# Altium integrated library TI Data Converters Analog to Digital Converter.IntLib: 2197 symbols (part 74 of 168)
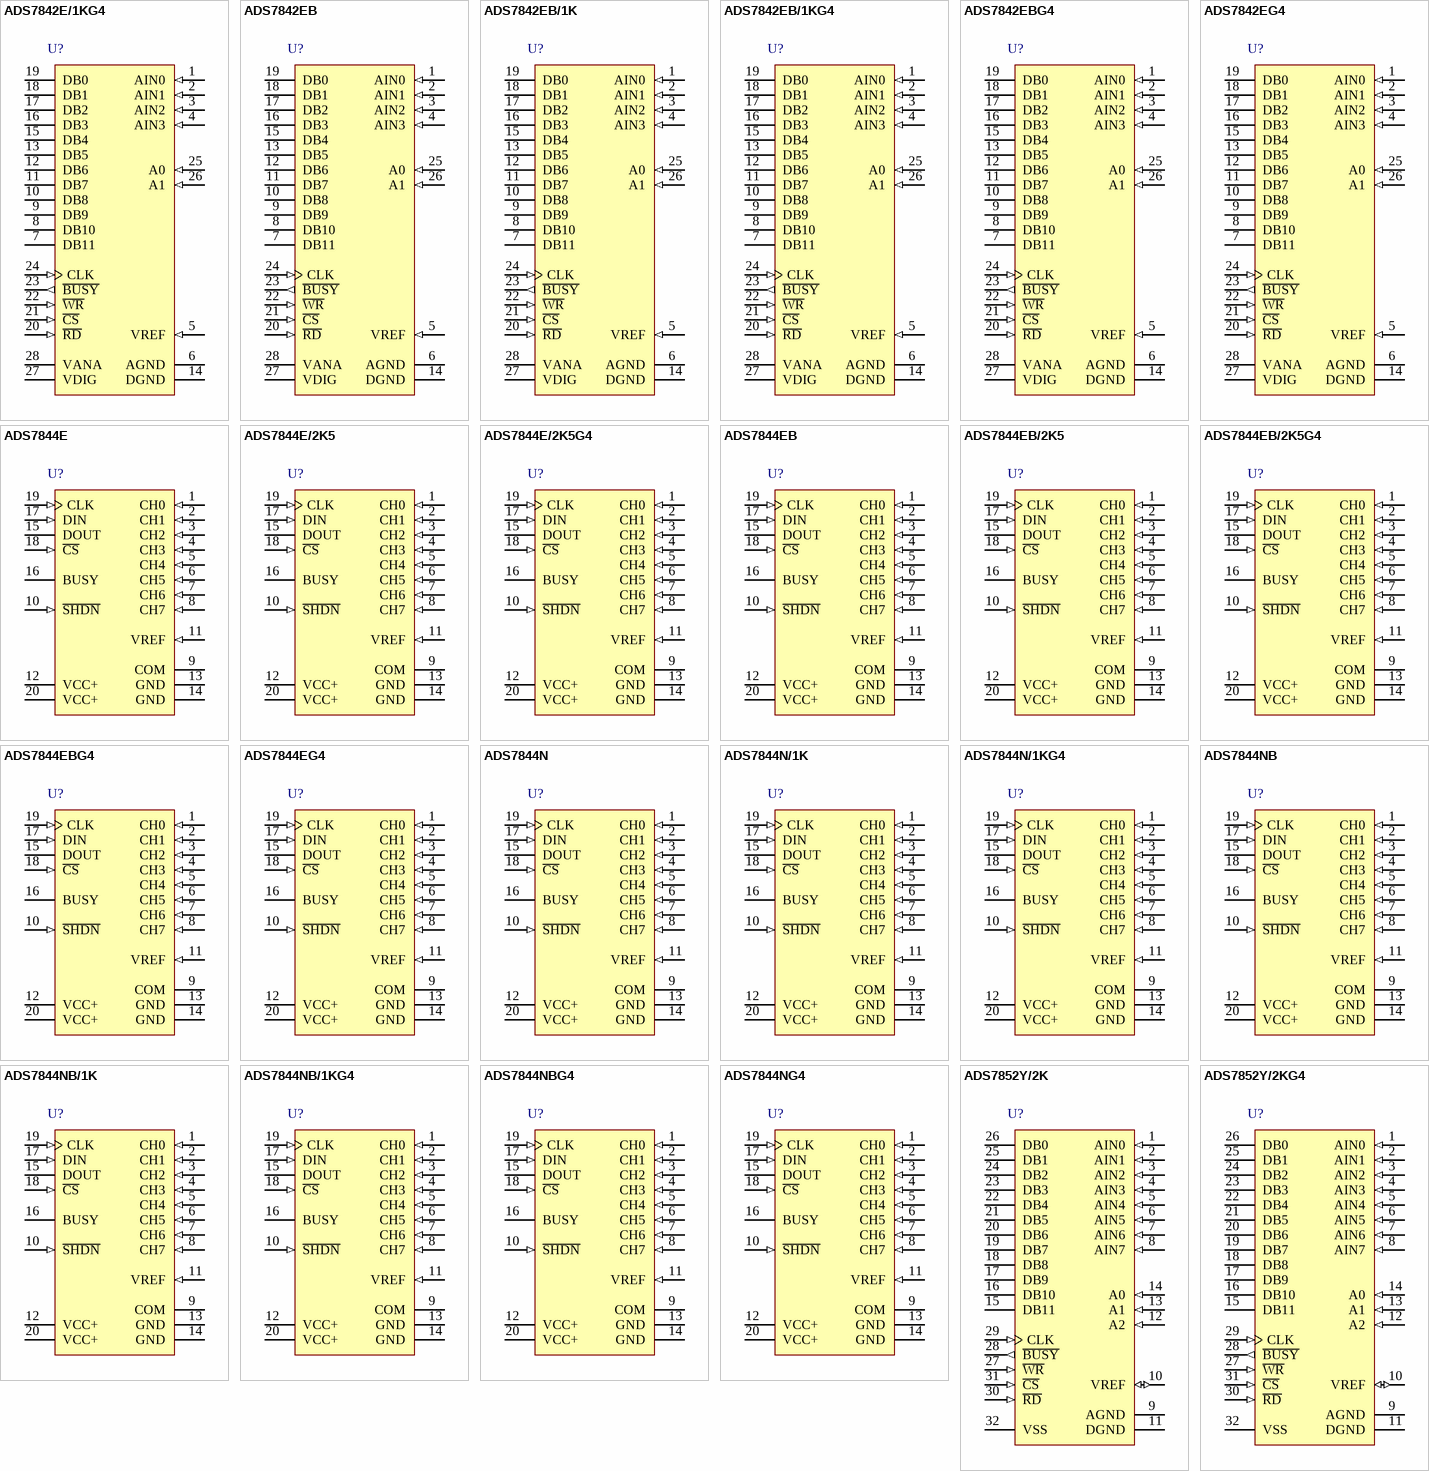
[diagram p199: symbols ADS7842E/1KG4 to ADS7852Y/2KG4]

## ADS7844NBG4
designator U?
12-Bit, 8-Channel Serial Output Sampling ADC, -40 to 85 degC, 20-pin SOP (DB20), Green (RoHS & no Sb/Br); Manufacturer: Texas Instruments; PartNumber: ADS7844NBG4; # Input Channels: 8; Analog Voltage AV/DD(Max)(V): 5.25; Analog Voltage AV/DD(Min)(V): 2.7; Architecture: SAR; INL(Max)(+/-LSB): 1; Interface: Serial SPI; Resolution(Bits): 12; Sample Rate (max)(SPS): 200K; SFDR(dB): 78; SINAD(dB): 72; SubFamily: Precision ADC (<=10MSPS); DatasheetVersion: SBAS100A; PackageVersion: 4040065/E, 12/2001; PackageReference: DB20; PackageDescription: 20-Pin Plastic Small Outline, Body 5.3 x 7.2 mm, Pitch 0.65 mm; Supplier 1: Digi-Key; Supplier Part Number 1: TLV2544CPWG4-ND; Supplier 2: Mouser; Supplier Part Number 2: 595-TLV2544CPWG4; Digital Supply(Max)(V): 5.25; Digital Supply(Min)(V): 2.7; Eco-Plan: Green (RoHS & no Sb/Br); SNR(dB): 72; Mounting Technology: Surface Mount; Code_JEDEC: MO-150; ComponentLink1Description: Manufacturer URL; ComponentLink1URL: http://www.ti.com/; ComponentLink2Description: Datasheet; ComponentLink2URL: http://www.ti.com/general/docs/lit/getliterature.tsp?genericPartNumber=ADS7844&fileType=pdf; ComponentLink3Description: Package Specification; ComponentLink3URL: http://www.ti.com/lit/ml/msso002e/msso002e.pdf
footprint TI-DB20_N (SOP, 20-Leads, Body 7.2x5.3mm, Pitch 0.65mm, IPC Medium Density)
footprint TI-DB20_L (SOP, 20-Leads, Body 7.2x5.3mm, Pitch 0.65mm, IPC High Density)
footprint TI-DB20_M (SOP, 20-Leads, Body 7.2x5.3mm, Pitch 0.65mm, IPC Low Density)
pins: 1 CH0 (in) "Analog Input Channel 0.", 2 CH1 (in) "Analog Input Channel 1.", 3 CH2 (in) "Analog Input Channel 2.", 4 CH3 (in) "Analog Input Channel 3.", 5 CH4 (in) "Analog Input Channel 4.", 6 CH5 (in) "Analog Input Channel 5.", 7 CH6 (in) "Analog Input Channel 6.", 8 CH7 (in) "Analog Input Channel 7.", 9 COM (power) "Ground reference for analog inputs. Sets zero code voltage in single ended mode. Connect this pin to ground or ground reference point.", 10 ~{SHDN} (in) "Shutdown. When LOW, the device enters a very low power shutdown mode.", 11 VREF (in) "Voltage Reference Input. See Specification Table for ranges.", 12 VCC+ (power) "Power Supply, 2.7V to 5V.", 13 GND (power) "Ground", 14 GND (power) "Ground", 15 DOUT (hiz) "Serial Data Output. Data is shifted on the falling edge of DCLK. This output is high impedance when C\S\ is high.", 16 BUSY (hiz) "Busy Output. Busy goes low when the DIN control bits are being read and also when the device is converting. The Output is high impedance when C\S\ is High.", 17 DIN (in) "Serial Data Input. If C\S\ is LOW, data is latched on rising edge of DCLK.", 18 ~{CS} (in) "Chip Select Input. Active LOW. Data will not be clocked into DIN unless C\S\ is low. When C\S\ is high DOUT is high impedance", 19 CLK (in) "External Clock Input. The clock speed determines the conversion rate by the equation fCLK = 16 x fSAMPLE.", 20 VCC+ (power) "Power Supply"

## ADS7844NG4
designator U?
12-Bit, 8-Channel Serial Output Sampling ADC, -40 to 85 degC, 20-pin SOP (DB20), Green (RoHS & no Sb/Br); Manufacturer: Texas Instruments; PartNumber: ADS7844NG4; # Input Channels: 8; Analog Voltage AV/DD(Max)(V): 5.25; Analog Voltage AV/DD(Min)(V): 2.7; Architecture: SAR; INL(Max)(+/-LSB): 2; Interface: Serial SPI; Resolution(Bits): 12; Sample Rate (max)(SPS): 200K; SFDR(dB): 76; SINAD(dB): 71; SNR(dB): 72; SubFamily: Precision ADC (<=10MSPS); DatasheetVersion: SBAS100A; PackageVersion: 4040065/E, 12/2001; PackageReference: DB20; PackageDescription: 20-Pin Plastic Small Outline, Body 5.3 x 7.2 mm, Pitch 0.65 mm; Supplier 1: Digi-Key; Supplier Part Number 1: TLV2544CPWR-ND; Supplier 2: Mouser; Supplier Part Number 2: 595-TLV2544CPWR; Digital Supply(Max)(V): 5.25; Digital Supply(Min)(V): 2.7; Eco-Plan: Green (RoHS & no Sb/Br); Mounting Technology: Surface Mount; Code_JEDEC: MO-150; ComponentLink1Description: Manufacturer URL; ComponentLink1URL: http://www.ti.com/; ComponentLink2Description: Datasheet; ComponentLink2URL: http://www.ti.com/general/docs/lit/getliterature.tsp?genericPartNumber=ADS7844&fileType=pdf; ComponentLink3Description: Package Specification; ComponentLink3URL: http://www.ti.com/lit/ml/msso002e/msso002e.pdf
footprint TI-DB20_N (SOP, 20-Leads, Body 7.2x5.3mm, Pitch 0.65mm, IPC Medium Density)
footprint TI-DB20_L (SOP, 20-Leads, Body 7.2x5.3mm, Pitch 0.65mm, IPC High Density)
footprint TI-DB20_M (SOP, 20-Leads, Body 7.2x5.3mm, Pitch 0.65mm, IPC Low Density)
pins: 1 CH0 (in) "Analog Input Channel 0.", 2 CH1 (in) "Analog Input Channel 1.", 3 CH2 (in) "Analog Input Channel 2.", 4 CH3 (in) "Analog Input Channel 3.", 5 CH4 (in) "Analog Input Channel 4.", 6 CH5 (in) "Analog Input Channel 5.", 7 CH6 (in) "Analog Input Channel 6.", 8 CH7 (in) "Analog Input Channel 7.", 9 COM (power) "Ground reference for analog inputs. Sets zero code voltage in single ended mode. Connect this pin to ground or ground reference point.", 10 ~{SHDN} (in) "Shutdown. When LOW, the device enters a very low power shutdown mode.", 11 VREF (in) "Voltage Reference Input. See Specification Table for ranges.", 12 VCC+ (power) "Power Supply, 2.7V to 5V.", 13 GND (power) "Ground", 14 GND (power) "Ground", 15 DOUT (hiz) "Serial Data Output. Data is shifted on the falling edge of DCLK. This output is high impedance when C\S\ is high.", 16 BUSY (hiz) "Busy Output. Busy goes low when the DIN control bits are being read and also when the device is converting. The Output is high impedance when C\S\ is High.", 17 DIN (in) "Serial Data Input. If C\S\ is LOW, data is latched on rising edge of DCLK.", 18 ~{CS} (in) "Chip Select Input. Active LOW. Data will not be clocked into DIN unless C\S\ is low. When C\S\ is high DOUT is high impedance", 19 CLK (in) "External Clock Input. The clock speed determines the conversion rate by the equation fCLK = 16 x fSAMPLE.", 20 VCC+ (power) "Power Supply"

## ADS7852Y/2K
designator U?
12-Bit, 8-Channel, Parallel Output ADC, -40 to 85 degC, 32-pin QFP (PBS32), Green (RoHS & no Sb/Br); Manufacturer: Texas Instruments; PartNumber: ADS7852Y/2K; # Input Channels: 8; Analog Voltage AV/DD(Max)(V): 5.25; Analog Voltage AV/DD(Min)(V): 4.75; Architecture: SAR; INL(Max)(+/-LSB): 2; Interface: Parallel CMOS; Resolution(Bits): 12; Sample Rate (max)(SPS): 500K; SFDR(dB): 74; SINAD(dB): 70; SNR(dB): 72; SubFamily: Precision ADC (<=10MSPS); DatasheetVersion: SBAS111C; PackageVersion: 4087735/B, 07/2005; PackageReference: PBS32; PackageDescription: 32-Pin Plastic Flat Pack, Body 5 X 5 mm, Pitch 0.5 mm; Supplier 1: Digi-Key; Supplier Part Number 1: TLV2544CPWRG4-ND; Supplier 2: Mouser; Supplier Part Number 2: 595-TLV2544CPWRG4; Digital Supply(Max)(V): 5.25; Digital Supply(Min)(V): 4.75; Eco-Plan: Green (RoHS & no Sb/Br); Mounting Technology: Surface Mount; Code_JEDEC: MS-026; ComponentLink1Description: Manufacturer URL; ComponentLink1URL: http://www.ti.com/; ComponentLink2Description: Datasheet; ComponentLink2URL: http://www.ti.com/general/docs/lit/getliterature.tsp?genericPartNumber=ADS7852&fileType=pdf; ComponentLink3Description: Package Specification; ComponentLink3URL: http://www.ti.com/lit/ml/mpqf027a/mpqf027a.pdf
footprint TI-PBS32_N (QFP, 32-Leads, Body 5x5mm, Pitch 0.5mm, IPC Medium Density)
footprint TI-PBS32_L (QFP, 32-Leads, Body 5x5mm, Pitch 0.5mm, IPC High Density)
footprint TI-PBS32_M (QFP, 32-Leads, Body 5x5mm, Pitch 0.5mm, IPC Low Density)
pins: 1 AIN0 (in) "Analog Input Channel 0", 2 AIN1 (in) "Analog Input Channel 1", 3 AIN2 (in) "Analog Input Channel 2", 4 AIN3 (in) "Analog Input Channel 3", 5 AIN4 (in) "Analog Input Channel 4", 6 AIN5 (in) "Analog Input Channel 5", 7 AIN6 (in) "Analog Input Channel 6", 8 AIN7 (in) "Analog Input Channel 7", 9 AGND (power) "Analog Ground, GND = 0V", 10 VREF (io) "Voltage Reference Input and Output. See Electrical Characteristics table for ranges.Decouple to ground with a 0.1uF ceramic capacitor and a 2.2uF tantalum capacitor.", 11 DGND (power) "Digital Ground, GND = 0V", 12 A2 (in) "Channel Address. See Channel Selection Table for details.", 13 A1 (in) "Channel Address. See Channel Selection Table for details.", 14 A0 (in) "Channel Address. See Channel Selection Table for details.", 15 DB11 (hiz) "Data Bit 11 (MSB)", 16 DB10 (hiz) "Data Bit 10", 17 DB9 (hiz) "Data Bit 9", 18 DB8 (hiz) "Data Bit 8", 19 DB7 (hiz) "Data Bit 7", 20 DB6 (hiz) "Data Bit 6", 21 DB5 (hiz) "Data Bit 5", 22 DB4 (hiz) "Data Bit 4", 23 DB3 (hiz) "Data Bit 3", 24 DB2 (hiz) "Data Bit 2", 25 DB1 (hiz) "Data Bit 1", 26 DB0 (hiz) "Data Bit 0 (LSB)", 27 ~{WR} (in) "Write Input. Active LOW. Use to start a new conversion and to select an analog channel via address inputs A0, A1 and A2 in combination with C\S\.", 28 ~{BUSY} (out) "B\U\S\Y\ output goes LOW and stays LOW during a conversion. B\U\S\Y\ rises when a conversion is complete.", 29 CLK (in) "External Clock Input. The clock speed determines the conversion rate by the equation: fCLK = 16 X fSAMPLE.", 30 ~{RD} (in) "Read Input. Active LOW. Use to read the data outputs in combination with C\S\. Also use (in conjunction with A0 or A1) to place device in power-down mode.", 31 ~{CS} (in) "Chip Select Input. Active LOW. The combination of C\S\ taken LOW and W\R\ taken LOW initiates a new conversion and places the outputs in tri-state mode.", 32 VSS (power) "Voltage Supply Input. Nominally +5V. Decouple to ground with a 0.1uF ceramic capacitor and a 10uF tantalum capacitor."

## ADS7852Y/2KG4
designator U?
12-Bit, 8-Channel, Parallel Output ADC, -40 to 85 degC, 32-pin QFP (PBS32), Green (RoHS & no Sb/Br); Manufacturer: Texas Instruments; PartNumber: ADS7852Y/2KG4; # Input Channels: 8; Analog Voltage AV/DD(Max)(V): 5.25; Analog Voltage AV/DD(Min)(V): 4.75; Architecture: SAR; INL(Max)(+/-LSB): 2; Interface: Parallel CMOS; Resolution(Bits): 12; Sample Rate (max)(SPS): 500K; SFDR(dB): 74; SINAD(dB): 70; SNR(dB): 72; SubFamily: Precision ADC (<=10MSPS); DatasheetVersion: SBAS111C; PackageVersion: 4087735/B, 07/2005; PackageReference: PBS32; PackageDescription: 32-Pin Plastic Flat Pack, Body 5 X 5 mm, Pitch 0.5 mm; Supplier 1: Digi-Key; Supplier Part Number 1: 296-2981-5-ND; Supplier 2: Newark; Supplier Part Number 2: 76C8356; Supplier 3: Mouser; Supplier Part Number 3: 595-TLV2544ID; Digital Supply(Max)(V): 5.25; Digital Supply(Min)(V): 4.75; Eco-Plan: Green (RoHS & no Sb/Br); Mounting Technology: Surface Mount; Code_JEDEC: MS-026; ComponentLink1Description: Manufacturer URL; ComponentLink1URL: http://www.ti.com/; ComponentLink2Description: Datasheet; ComponentLink2URL: http://www.ti.com/general/docs/lit/getliterature.tsp?genericPartNumber=ADS7852&fileType=pdf; ComponentLink3Description: Package Specification; ComponentLink3URL: http://www.ti.com/lit/ml/mpqf027a/mpqf027a.pdf
footprint TI-PBS32_N (QFP, 32-Leads, Body 5x5mm, Pitch 0.5mm, IPC Medium Density)
footprint TI-PBS32_L (QFP, 32-Leads, Body 5x5mm, Pitch 0.5mm, IPC High Density)
footprint TI-PBS32_M (QFP, 32-Leads, Body 5x5mm, Pitch 0.5mm, IPC Low Density)
pins: 1 AIN0 (in) "Analog Input Channel 0", 2 AIN1 (in) "Analog Input Channel 1", 3 AIN2 (in) "Analog Input Channel 2", 4 AIN3 (in) "Analog Input Channel 3", 5 AIN4 (in) "Analog Input Channel 4", 6 AIN5 (in) "Analog Input Channel 5", 7 AIN6 (in) "Analog Input Channel 6", 8 AIN7 (in) "Analog Input Channel 7", 9 AGND (power) "Analog Ground, GND = 0V", 10 VREF (io) "Voltage Reference Input and Output. See Electrical Characteristics table for ranges.Decouple to ground with a 0.1uF ceramic capacitor and a 2.2uF tantalum capacitor.", 11 DGND (power) "Digital Ground, GND = 0V", 12 A2 (in) "Channel Address. See Channel Selection Table for details.", 13 A1 (in) "Channel Address. See Channel Selection Table for details.", 14 A0 (in) "Channel Address. See Channel Selection Table for details.", 15 DB11 (hiz) "Data Bit 11 (MSB)", 16 DB10 (hiz) "Data Bit 10", 17 DB9 (hiz) "Data Bit 9", 18 DB8 (hiz) "Data Bit 8", 19 DB7 (hiz) "Data Bit 7", 20 DB6 (hiz) "Data Bit 6", 21 DB5 (hiz) "Data Bit 5", 22 DB4 (hiz) "Data Bit 4", 23 DB3 (hiz) "Data Bit 3", 24 DB2 (hiz) "Data Bit 2", 25 DB1 (hiz) "Data Bit 1", 26 DB0 (hiz) "Data Bit 0 (LSB)", 27 ~{WR} (in) "Write Input. Active LOW. Use to start a new conversion and to select an analog channel via address inputs A0, A1 and A2 in combination with C\S\.", 28 ~{BUSY} (out) "B\U\S\Y\ output goes LOW and stays LOW during a conversion. B\U\S\Y\ rises when a conversion is complete.", 29 CLK (in) "External Clock Input. The clock speed determines the conversion rate by the equation: fCLK = 16 X fSAMPLE.", 30 ~{RD} (in) "Read Input. Active LOW. Use to read the data outputs in combination with C\S\. Also use (in conjunction with A0 or A1) to place device in power-down mode.", 31 ~{CS} (in) "Chip Select Input. Active LOW. The combination of C\S\ taken LOW and W\R\ taken LOW initiates a new conversion and places the outputs in tri-state mode.", 32 VSS (power) "Voltage Supply Input. Nominally +5V. Decouple to ground with a 0.1uF ceramic capacitor and a 10uF tantalum capacitor."

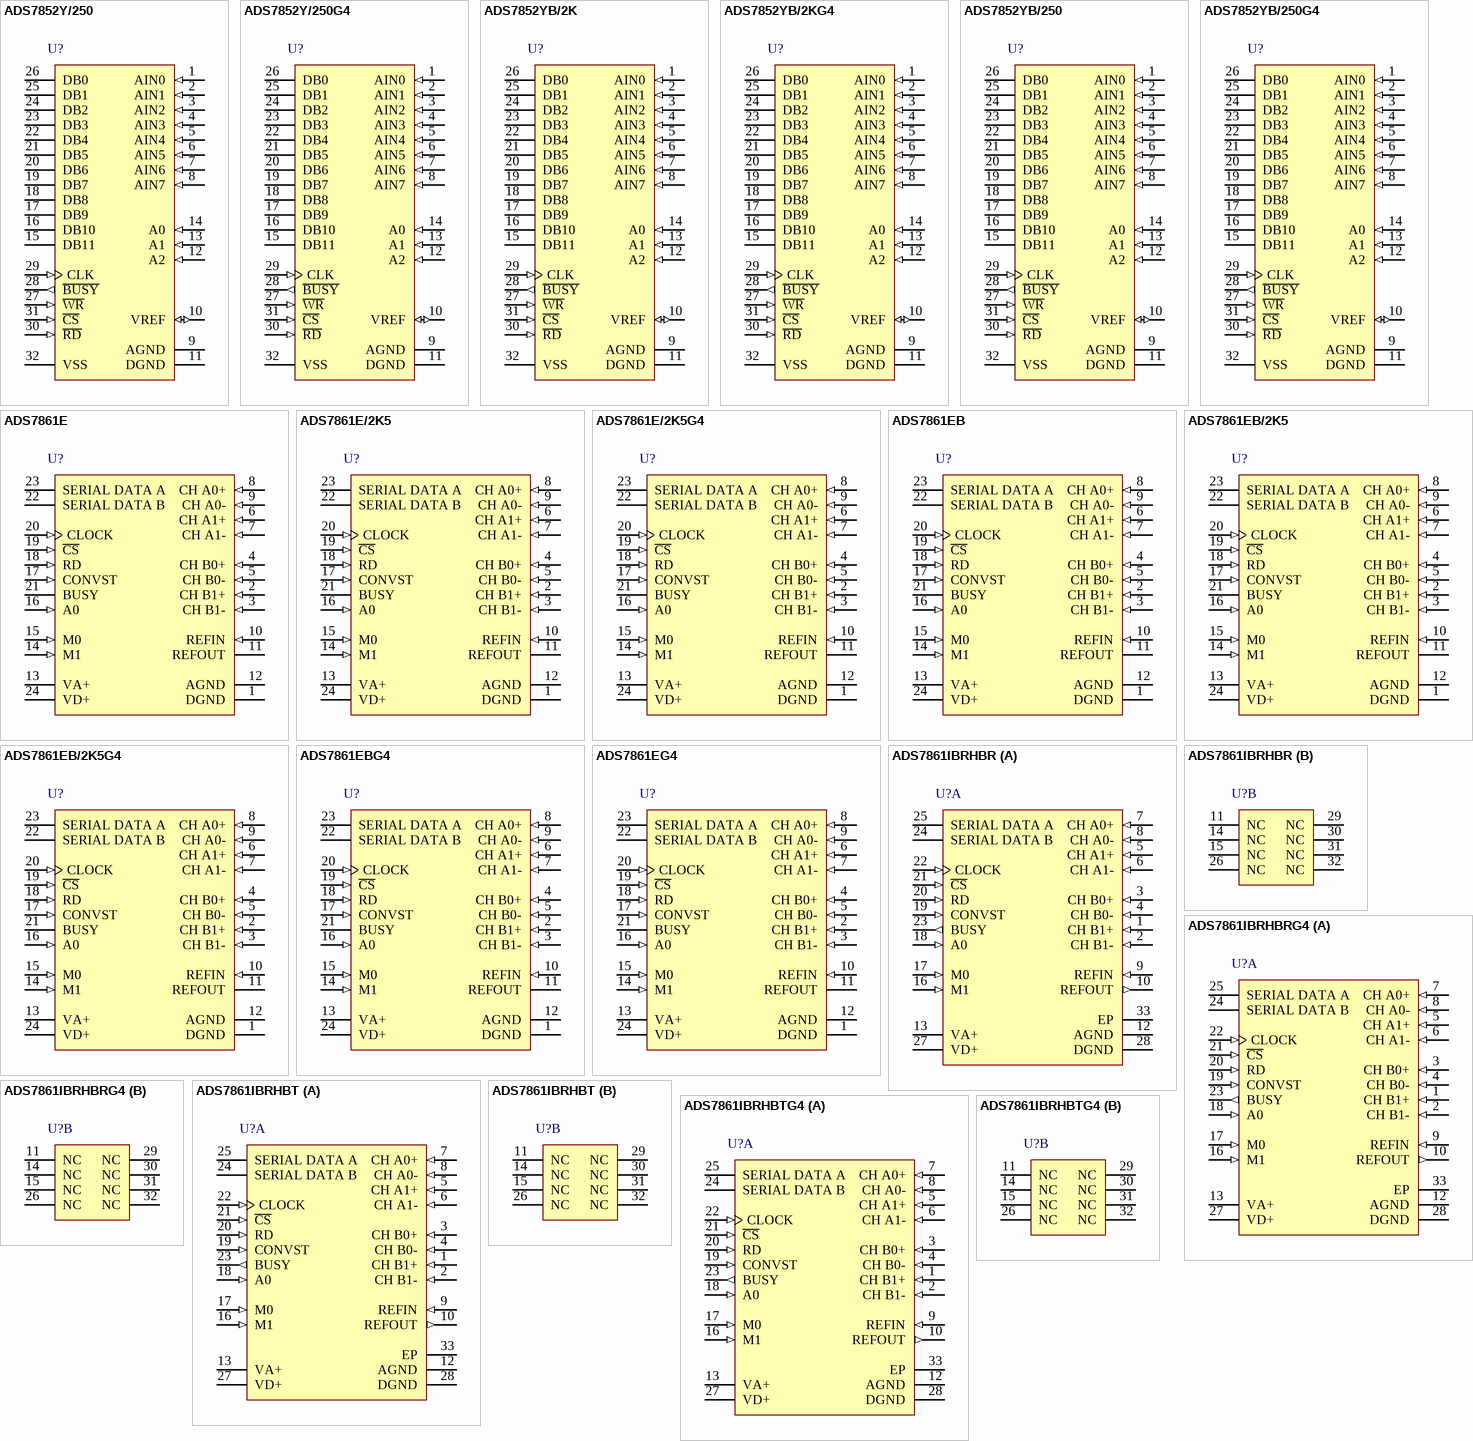
[diagram p66: symbols ADS7852Y/250 to ADS7861IBRHBTG4]

## ADS7852Y/250
designator U?
12-Bit, 8-Channel, Parallel Output ADC, -40 to 85 degC, 32-pin QFP (PBS32), Green (RoHS & no Sb/Br); Manufacturer: Texas Instruments; PartNumber: ADS7852Y/250; # Input Channels: 8; Analog Voltage AV/DD(Max)(V): 5.25; Analog Voltage AV/DD(Min)(V): 4.75; Architecture: SAR; INL(Max)(+/-LSB): 2; Interface: Parallel CMOS; Resolution(Bits): 12; Sample Rate (max)(SPS): 500K; SFDR(dB): 74; SINAD(dB): 70; SNR(dB): 72; SubFamily: Precision ADC (<=10MSPS); DatasheetVersion: SBAS111C; PackageVersion: 4087735/B, 07/2005; PackageReference: PBS32; PackageDescription: 32-Pin Plastic Flat Pack, Body 5 X 5 mm, Pitch 0.5 mm; Supplier 1: Digi-Key; Supplier Part Number 1: TLV2544IDG4-ND; Supplier 2: Mouser; Supplier Part Number 2: 595-TLV2544IDG4; Digital Supply(Max)(V): 5.25; Digital Supply(Min)(V): 4.75; Eco-Plan: Green (RoHS & no Sb/Br); Mounting Technology: Surface Mount; Code_JEDEC: MS-026; ComponentLink1Description: Manufacturer URL; ComponentLink1URL: http://www.ti.com/; ComponentLink2Description: Datasheet; ComponentLink2URL: http://www.ti.com/general/docs/lit/getliterature.tsp?genericPartNumber=ADS7852&fileType=pdf; ComponentLink3Description: Package Specification; ComponentLink3URL: http://www.ti.com/lit/ml/mpqf027a/mpqf027a.pdf
footprint TI-PBS32_N (QFP, 32-Leads, Body 5x5mm, Pitch 0.5mm, IPC Medium Density)
footprint TI-PBS32_L (QFP, 32-Leads, Body 5x5mm, Pitch 0.5mm, IPC High Density)
footprint TI-PBS32_M (QFP, 32-Leads, Body 5x5mm, Pitch 0.5mm, IPC Low Density)
pins: 1 AIN0 (in) "Analog Input Channel 0", 2 AIN1 (in) "Analog Input Channel 1", 3 AIN2 (in) "Analog Input Channel 2", 4 AIN3 (in) "Analog Input Channel 3", 5 AIN4 (in) "Analog Input Channel 4", 6 AIN5 (in) "Analog Input Channel 5", 7 AIN6 (in) "Analog Input Channel 6", 8 AIN7 (in) "Analog Input Channel 7", 9 AGND (power) "Analog Ground, GND = 0V", 10 VREF (io) "Voltage Reference Input and Output. See Electrical Characteristics table for ranges.Decouple to ground with a 0.1uF ceramic capacitor and a 2.2uF tantalum capacitor.", 11 DGND (power) "Digital Ground, GND = 0V", 12 A2 (in) "Channel Address. See Channel Selection Table for details.", 13 A1 (in) "Channel Address. See Channel Selection Table for details.", 14 A0 (in) "Channel Address. See Channel Selection Table for details.", 15 DB11 (hiz) "Data Bit 11 (MSB)", 16 DB10 (hiz) "Data Bit 10", 17 DB9 (hiz) "Data Bit 9", 18 DB8 (hiz) "Data Bit 8", 19 DB7 (hiz) "Data Bit 7", 20 DB6 (hiz) "Data Bit 6", 21 DB5 (hiz) "Data Bit 5", 22 DB4 (hiz) "Data Bit 4", 23 DB3 (hiz) "Data Bit 3", 24 DB2 (hiz) "Data Bit 2", 25 DB1 (hiz) "Data Bit 1", 26 DB0 (hiz) "Data Bit 0 (LSB)", 27 ~{WR} (in) "Write Input. Active LOW. Use to start a new conversion and to select an analog channel via address inputs A0, A1 and A2 in combination with C\S\.", 28 ~{BUSY} (out) "B\U\S\Y\ output goes LOW and stays LOW during a conversion. B\U\S\Y\ rises when a conversion is complete.", 29 CLK (in) "External Clock Input. The clock speed determines the conversion rate by the equation: fCLK = 16 X fSAMPLE.", 30 ~{RD} (in) "Read Input. Active LOW. Use to read the data outputs in combination with C\S\. Also use (in conjunction with A0 or A1) to place device in power-down mode.", 31 ~{CS} (in) "Chip Select Input. Active LOW. The combination of C\S\ taken LOW and W\R\ taken LOW initiates a new conversion and places the outputs in tri-state mode.", 32 VSS (power) "Voltage Supply Input. Nominally +5V. Decouple to ground with a 0.1uF ceramic capacitor and a 10uF tantalum capacitor."

## ADS7852Y/250G4
designator U?
12-Bit, 8-Channel, Parallel Output ADC, -40 to 85 degC, 32-pin QFP (PBS32), Green (RoHS & no Sb/Br); Manufacturer: Texas Instruments; PartNumber: ADS7852Y/250G4; # Input Channels: 8; Analog Voltage AV/DD(Max)(V): 5.25; Analog Voltage AV/DD(Min)(V): 4.75; Architecture: SAR; INL(Max)(+/-LSB): 2; Interface: Parallel CMOS; Resolution(Bits): 12; Sample Rate (max)(SPS): 500K; SFDR(dB): 74; SINAD(dB): 70; SNR(dB): 72; SubFamily: Precision ADC (<=10MSPS); DatasheetVersion: SBAS111C; PackageVersion: 4087735/B, 07/2005; PackageReference: PBS32; PackageDescription: 32-Pin Plastic Flat Pack, Body 5 X 5 mm, Pitch 0.5 mm; Supplier 1: Digi-Key; Supplier Part Number 1: TLV2544IDR-ND; Supplier 2: Newark; Supplier Part Number 2: 76C8357; Supplier 3: Mouser; Supplier Part Number 3: 595-TLV2544IDR; Digital Supply(Max)(V): 5.25; Digital Supply(Min)(V): 4.75; Eco-Plan: Green (RoHS & no Sb/Br); Mounting Technology: Surface Mount; Code_JEDEC: MS-026; ComponentLink1Description: Manufacturer URL; ComponentLink1URL: http://www.ti.com/; ComponentLink2Description: Datasheet; ComponentLink2URL: http://www.ti.com/general/docs/lit/getliterature.tsp?genericPartNumber=ADS7852&fileType=pdf; ComponentLink3Description: Package Specification; ComponentLink3URL: http://www.ti.com/lit/ml/mpqf027a/mpqf027a.pdf
footprint TI-PBS32_N (QFP, 32-Leads, Body 5x5mm, Pitch 0.5mm, IPC Medium Density)
footprint TI-PBS32_L (QFP, 32-Leads, Body 5x5mm, Pitch 0.5mm, IPC High Density)
footprint TI-PBS32_M (QFP, 32-Leads, Body 5x5mm, Pitch 0.5mm, IPC Low Density)
pins: 1 AIN0 (in) "Analog Input Channel 0", 2 AIN1 (in) "Analog Input Channel 1", 3 AIN2 (in) "Analog Input Channel 2", 4 AIN3 (in) "Analog Input Channel 3", 5 AIN4 (in) "Analog Input Channel 4", 6 AIN5 (in) "Analog Input Channel 5", 7 AIN6 (in) "Analog Input Channel 6", 8 AIN7 (in) "Analog Input Channel 7", 9 AGND (power) "Analog Ground, GND = 0V", 10 VREF (io) "Voltage Reference Input and Output. See Electrical Characteristics table for ranges.Decouple to ground with a 0.1uF ceramic capacitor and a 2.2uF tantalum capacitor.", 11 DGND (power) "Digital Ground, GND = 0V", 12 A2 (in) "Channel Address. See Channel Selection Table for details.", 13 A1 (in) "Channel Address. See Channel Selection Table for details.", 14 A0 (in) "Channel Address. See Channel Selection Table for details.", 15 DB11 (hiz) "Data Bit 11 (MSB)", 16 DB10 (hiz) "Data Bit 10", 17 DB9 (hiz) "Data Bit 9", 18 DB8 (hiz) "Data Bit 8", 19 DB7 (hiz) "Data Bit 7", 20 DB6 (hiz) "Data Bit 6", 21 DB5 (hiz) "Data Bit 5", 22 DB4 (hiz) "Data Bit 4", 23 DB3 (hiz) "Data Bit 3", 24 DB2 (hiz) "Data Bit 2", 25 DB1 (hiz) "Data Bit 1", 26 DB0 (hiz) "Data Bit 0 (LSB)", 27 ~{WR} (in) "Write Input. Active LOW. Use to start a new conversion and to select an analog channel via address inputs A0, A1 and A2 in combination with C\S\.", 28 ~{BUSY} (out) "B\U\S\Y\ output goes LOW and stays LOW during a conversion. B\U\S\Y\ rises when a conversion is complete.", 29 CLK (in) "External Clock Input. The clock speed determines the conversion rate by the equation: fCLK = 16 X fSAMPLE.", 30 ~{RD} (in) "Read Input. Active LOW. Use to read the data outputs in combination with C\S\. Also use (in conjunction with A0 or A1) to place device in power-down mode.", 31 ~{CS} (in) "Chip Select Input. Active LOW. The combination of C\S\ taken LOW and W\R\ taken LOW initiates a new conversion and places the outputs in tri-state mode.", 32 VSS (power) "Voltage Supply Input. Nominally +5V. Decouple to ground with a 0.1uF ceramic capacitor and a 10uF tantalum capacitor."

## ADS7852YB/2K
designator U?
12-Bit, 8-Channel, Parallel Output ADC, -40 to 85 degC, 32-pin QFP (PBS32), Green (RoHS & no Sb/Br); Manufacturer: Texas Instruments; PartNumber: ADS7852YB/2K; # Input Channels: 8; Analog Voltage AV/DD(Max)(V): 5.25; Analog Voltage AV/DD(Min)(V): 4.75; Architecture: SAR; INL(Max)(+/-LSB): 1; Interface: Parallel CMOS; Resolution(Bits): 12; Sample Rate (max)(SPS): 500K; SFDR(dB): 77; SINAD(dB): 72; SubFamily: Precision ADC (<=10MSPS); DatasheetVersion: SBAS111C; PackageVersion: 4087735/B, 07/2005; PackageReference: PBS32; PackageDescription: 32-Pin Plastic Flat Pack, Body 5 X 5 mm, Pitch 0.5 mm; Supplier 1: Digi-Key; Supplier Part Number 1: TLV2544IDRG4-ND; Supplier 2: Mouser; Supplier Part Number 2: 595-TLV2544IDRG4; Digital Supply(Max)(V): 5.25; Digital Supply(Min)(V): 4.75; Eco-Plan: Green (RoHS & no Sb/Br); SNR(dB): 72; Mounting Technology: Surface Mount; Code_JEDEC: MS-026; ComponentLink1Description: Manufacturer URL; ComponentLink1URL: http://www.ti.com/; ComponentLink2Description: Datasheet; ComponentLink2URL: http://www.ti.com/general/docs/lit/getliterature.tsp?genericPartNumber=ADS7852&fileType=pdf; ComponentLink3Description: Package Specification; ComponentLink3URL: http://www.ti.com/lit/ml/mpqf027a/mpqf027a.pdf
footprint TI-PBS32_N (QFP, 32-Leads, Body 5x5mm, Pitch 0.5mm, IPC Medium Density)
footprint TI-PBS32_L (QFP, 32-Leads, Body 5x5mm, Pitch 0.5mm, IPC High Density)
footprint TI-PBS32_M (QFP, 32-Leads, Body 5x5mm, Pitch 0.5mm, IPC Low Density)
pins: 1 AIN0 (in) "Analog Input Channel 0", 2 AIN1 (in) "Analog Input Channel 1", 3 AIN2 (in) "Analog Input Channel 2", 4 AIN3 (in) "Analog Input Channel 3", 5 AIN4 (in) "Analog Input Channel 4", 6 AIN5 (in) "Analog Input Channel 5", 7 AIN6 (in) "Analog Input Channel 6", 8 AIN7 (in) "Analog Input Channel 7", 9 AGND (power) "Analog Ground, GND = 0V", 10 VREF (io) "Voltage Reference Input and Output. See Electrical Characteristics table for ranges.Decouple to ground with a 0.1uF ceramic capacitor and a 2.2uF tantalum capacitor.", 11 DGND (power) "Digital Ground, GND = 0V", 12 A2 (in) "Channel Address. See Channel Selection Table for details.", 13 A1 (in) "Channel Address. See Channel Selection Table for details.", 14 A0 (in) "Channel Address. See Channel Selection Table for details.", 15 DB11 (hiz) "Data Bit 11 (MSB)", 16 DB10 (hiz) "Data Bit 10", 17 DB9 (hiz) "Data Bit 9", 18 DB8 (hiz) "Data Bit 8", 19 DB7 (hiz) "Data Bit 7", 20 DB6 (hiz) "Data Bit 6", 21 DB5 (hiz) "Data Bit 5", 22 DB4 (hiz) "Data Bit 4", 23 DB3 (hiz) "Data Bit 3", 24 DB2 (hiz) "Data Bit 2", 25 DB1 (hiz) "Data Bit 1", 26 DB0 (hiz) "Data Bit 0 (LSB)", 27 ~{WR} (in) "Write Input. Active LOW. Use to start a new conversion and to select an analog channel via address inputs A0, A1 and A2 in combination with C\S\.", 28 ~{BUSY} (out) "B\U\S\Y\ output goes LOW and stays LOW during a conversion. B\U\S\Y\ rises when a conversion is complete.", 29 CLK (in) "External Clock Input. The clock speed determines the conversion rate by the equation: fCLK = 16 X fSAMPLE.", 30 ~{RD} (in) "Read Input. Active LOW. Use to read the data outputs in combination with C\S\. Also use (in conjunction with A0 or A1) to place device in power-down mode.", 31 ~{CS} (in) "Chip Select Input. Active LOW. The combination of C\S\ taken LOW and W\R\ taken LOW initiates a new conversion and places the outputs in tri-state mode.", 32 VSS (power) "Voltage Supply Input. Nominally +5V. Decouple to ground with a 0.1uF ceramic capacitor and a 10uF tantalum capacitor."

## ADS7852YB/2KG4
designator U?
12-Bit, 8-Channel, Parallel Output ADC, -40 to 85 degC, 32-pin QFP (PBS32), Green (RoHS & no Sb/Br); Manufacturer: Texas Instruments; PartNumber: ADS7852YB/2KG4; # Input Channels: 8; Analog Voltage AV/DD(Max)(V): 5.25; Analog Voltage AV/DD(Min)(V): 4.75; Architecture: SAR; INL(Max)(+/-LSB): 1; Interface: Parallel CMOS; Resolution(Bits): 12; Sample Rate (max)(SPS): 500K; SFDR(dB): 77; SINAD(dB): 72; SubFamily: Precision ADC (<=10MSPS); DatasheetVersion: SBAS111C; PackageVersion: 4087735/B, 07/2005; PackageReference: PBS32; PackageDescription: 32-Pin Plastic Flat Pack, Body 5 X 5 mm, Pitch 0.5 mm; Supplier 1: Digi-Key; Supplier Part Number 1: 296-2982-5-ND; Supplier 2: Newark; Supplier Part Number 2: 76C8358; Supplier 3: Mouser; Supplier Part Number 3: 595-TLV2544IPW; Digital Supply(Max)(V): 5.25; Digital Supply(Min)(V): 4.75; Eco-Plan: Green (RoHS & no Sb/Br); SNR(dB): 72; Mounting Technology: Surface Mount; Code_JEDEC: MS-026; ComponentLink1Description: Manufacturer URL; ComponentLink1URL: http://www.ti.com/; ComponentLink2Description: Datasheet; ComponentLink2URL: http://www.ti.com/general/docs/lit/getliterature.tsp?genericPartNumber=ADS7852&fileType=pdf; ComponentLink3Description: Package Specification; ComponentLink3URL: http://www.ti.com/lit/ml/mpqf027a/mpqf027a.pdf
footprint TI-PBS32_N (QFP, 32-Leads, Body 5x5mm, Pitch 0.5mm, IPC Medium Density)
footprint TI-PBS32_L (QFP, 32-Leads, Body 5x5mm, Pitch 0.5mm, IPC High Density)
footprint TI-PBS32_M (QFP, 32-Leads, Body 5x5mm, Pitch 0.5mm, IPC Low Density)
pins: 1 AIN0 (in) "Analog Input Channel 0", 2 AIN1 (in) "Analog Input Channel 1", 3 AIN2 (in) "Analog Input Channel 2", 4 AIN3 (in) "Analog Input Channel 3", 5 AIN4 (in) "Analog Input Channel 4", 6 AIN5 (in) "Analog Input Channel 5", 7 AIN6 (in) "Analog Input Channel 6", 8 AIN7 (in) "Analog Input Channel 7", 9 AGND (power) "Analog Ground, GND = 0V", 10 VREF (io) "Voltage Reference Input and Output. See Electrical Characteristics table for ranges.Decouple to ground with a 0.1uF ceramic capacitor and a 2.2uF tantalum capacitor.", 11 DGND (power) "Digital Ground, GND = 0V", 12 A2 (in) "Channel Address. See Channel Selection Table for details.", 13 A1 (in) "Channel Address. See Channel Selection Table for details.", 14 A0 (in) "Channel Address. See Channel Selection Table for details.", 15 DB11 (hiz) "Data Bit 11 (MSB)", 16 DB10 (hiz) "Data Bit 10", 17 DB9 (hiz) "Data Bit 9", 18 DB8 (hiz) "Data Bit 8", 19 DB7 (hiz) "Data Bit 7", 20 DB6 (hiz) "Data Bit 6", 21 DB5 (hiz) "Data Bit 5", 22 DB4 (hiz) "Data Bit 4", 23 DB3 (hiz) "Data Bit 3", 24 DB2 (hiz) "Data Bit 2", 25 DB1 (hiz) "Data Bit 1", 26 DB0 (hiz) "Data Bit 0 (LSB)", 27 ~{WR} (in) "Write Input. Active LOW. Use to start a new conversion and to select an analog channel via address inputs A0, A1 and A2 in combination with C\S\.", 28 ~{BUSY} (out) "B\U\S\Y\ output goes LOW and stays LOW during a conversion. B\U\S\Y\ rises when a conversion is complete.", 29 CLK (in) "External Clock Input. The clock speed determines the conversion rate by the equation: fCLK = 16 X fSAMPLE.", 30 ~{RD} (in) "Read Input. Active LOW. Use to read the data outputs in combination with C\S\. Also use (in conjunction with A0 or A1) to place device in power-down mode.", 31 ~{CS} (in) "Chip Select Input. Active LOW. The combination of C\S\ taken LOW and W\R\ taken LOW initiates a new conversion and places the outputs in tri-state mode.", 32 VSS (power) "Voltage Supply Input. Nominally +5V. Decouple to ground with a 0.1uF ceramic capacitor and a 10uF tantalum capacitor."

## ADS7852YB/250
designator U?
12-Bit, 8-Channel, Parallel Output ADC, -40 to 85 degC, 32-pin QFP (PBS32), Green (RoHS & no Sb/Br); Manufacturer: Texas Instruments; PartNumber: ADS7852YB/250; # Input Channels: 8; Analog Voltage AV/DD(Max)(V): 5.25; Analog Voltage AV/DD(Min)(V): 4.75; Architecture: SAR; INL(Max)(+/-LSB): 1; Interface: Parallel CMOS; Resolution(Bits): 12; Sample Rate (max)(SPS): 500K; SFDR(dB): 77; SINAD(dB): 72; SubFamily: Precision ADC (<=10MSPS); DatasheetVersion: SBAS111C; PackageVersion: 4087735/B, 07/2005; PackageReference: PBS32; PackageDescription: 32-Pin Plastic Flat Pack, Body 5 X 5 mm, Pitch 0.5 mm; Supplier 1: Digi-Key; Supplier Part Number 1: TLV2544IPWG4-ND; Supplier 2: Mouser; Supplier Part Number 2: 595-TLV2544IPWG4; Digital Supply(Max)(V): 5.25; Digital Supply(Min)(V): 4.75; Eco-Plan: Green (RoHS & no Sb/Br); SNR(dB): 72; Mounting Technology: Surface Mount; Code_JEDEC: MS-026; ComponentLink1Description: Manufacturer URL; ComponentLink1URL: http://www.ti.com/; ComponentLink2Description: Datasheet; ComponentLink2URL: http://www.ti.com/general/docs/lit/getliterature.tsp?genericPartNumber=ADS7852&fileType=pdf; ComponentLink3Description: Package Specification; ComponentLink3URL: http://www.ti.com/lit/ml/mpqf027a/mpqf027a.pdf
footprint TI-PBS32_N (QFP, 32-Leads, Body 5x5mm, Pitch 0.5mm, IPC Medium Density)
footprint TI-PBS32_L (QFP, 32-Leads, Body 5x5mm, Pitch 0.5mm, IPC High Density)
footprint TI-PBS32_M (QFP, 32-Leads, Body 5x5mm, Pitch 0.5mm, IPC Low Density)
pins: 1 AIN0 (in) "Analog Input Channel 0", 2 AIN1 (in) "Analog Input Channel 1", 3 AIN2 (in) "Analog Input Channel 2", 4 AIN3 (in) "Analog Input Channel 3", 5 AIN4 (in) "Analog Input Channel 4", 6 AIN5 (in) "Analog Input Channel 5", 7 AIN6 (in) "Analog Input Channel 6", 8 AIN7 (in) "Analog Input Channel 7", 9 AGND (power) "Analog Ground, GND = 0V", 10 VREF (io) "Voltage Reference Input and Output. See Electrical Characteristics table for ranges.Decouple to ground with a 0.1uF ceramic capacitor and a 2.2uF tantalum capacitor.", 11 DGND (power) "Digital Ground, GND = 0V", 12 A2 (in) "Channel Address. See Channel Selection Table for details.", 13 A1 (in) "Channel Address. See Channel Selection Table for details.", 14 A0 (in) "Channel Address. See Channel Selection Table for details.", 15 DB11 (hiz) "Data Bit 11 (MSB)", 16 DB10 (hiz) "Data Bit 10", 17 DB9 (hiz) "Data Bit 9", 18 DB8 (hiz) "Data Bit 8", 19 DB7 (hiz) "Data Bit 7", 20 DB6 (hiz) "Data Bit 6", 21 DB5 (hiz) "Data Bit 5", 22 DB4 (hiz) "Data Bit 4", 23 DB3 (hiz) "Data Bit 3", 24 DB2 (hiz) "Data Bit 2", 25 DB1 (hiz) "Data Bit 1", 26 DB0 (hiz) "Data Bit 0 (LSB)", 27 ~{WR} (in) "Write Input. Active LOW. Use to start a new conversion and to select an analog channel via address inputs A0, A1 and A2 in combination with C\S\.", 28 ~{BUSY} (out) "B\U\S\Y\ output goes LOW and stays LOW during a conversion. B\U\S\Y\ rises when a conversion is complete.", 29 CLK (in) "External Clock Input. The clock speed determines the conversion rate by the equation: fCLK = 16 X fSAMPLE.", 30 ~{RD} (in) "Read Input. Active LOW. Use to read the data outputs in combination with C\S\. Also use (in conjunction with A0 or A1) to place device in power-down mode.", 31 ~{CS} (in) "Chip Select Input. Active LOW. The combination of C\S\ taken LOW and W\R\ taken LOW initiates a new conversion and places the outputs in tri-state mode.", 32 VSS (power) "Voltage Supply Input. Nominally +5V. Decouple to ground with a 0.1uF ceramic capacitor and a 10uF tantalum capacitor."

## ADS7852YB/250G4
designator U?
12-Bit, 8-Channel, Parallel Output ADC, -40 to 85 degC, 32-pin QFP (PBS32), Green (RoHS & no Sb/Br); Manufacturer: Texas Instruments; PartNumber: ADS7852YB/250G4; # Input Channels: 8; Analog Voltage AV/DD(Max)(V): 5.25; Analog Voltage AV/DD(Min)(V): 4.75; Architecture: SAR; INL(Max)(+/-LSB): 1; Interface: Parallel CMOS; Resolution(Bits): 12; Sample Rate (max)(SPS): 500K; SFDR(dB): 77; SINAD(dB): 72; SubFamily: Precision ADC (<=10MSPS); DatasheetVersion: SBAS111C; PackageVersion: 4087735/B, 07/2005; PackageReference: PBS32; PackageDescription: 32-Pin Plastic Flat Pack, Body 5 X 5 mm, Pitch 0.5 mm; Supplier 1: Digi-Key; Supplier Part Number 1: TLV2544IPWR-ND; Supplier 2: Newark; Supplier Part Number 2: 76C8359; Supplier 3: Mouser; Supplier Part Number 3: 595-TLV2544IPWR; Digital Supply(Max)(V): 5.25; Digital Supply(Min)(V): 4.75; Eco-Plan: Green (RoHS & no Sb/Br); SNR(dB): 72; Mounting Technology: Surface Mount; Code_JEDEC: MS-026; ComponentLink1Description: Manufacturer URL; ComponentLink1URL: http://www.ti.com/; ComponentLink2Description: Datasheet; ComponentLink2URL: http://www.ti.com/general/docs/lit/getliterature.tsp?genericPartNumber=ADS7852&fileType=pdf; ComponentLink3Description: Package Specification; ComponentLink3URL: http://www.ti.com/lit/ml/mpqf027a/mpqf027a.pdf
footprint TI-PBS32_N (QFP, 32-Leads, Body 5x5mm, Pitch 0.5mm, IPC Medium Density)
footprint TI-PBS32_L (QFP, 32-Leads, Body 5x5mm, Pitch 0.5mm, IPC High Density)
footprint TI-PBS32_M (QFP, 32-Leads, Body 5x5mm, Pitch 0.5mm, IPC Low Density)
pins: 1 AIN0 (in) "Analog Input Channel 0", 2 AIN1 (in) "Analog Input Channel 1", 3 AIN2 (in) "Analog Input Channel 2", 4 AIN3 (in) "Analog Input Channel 3", 5 AIN4 (in) "Analog Input Channel 4", 6 AIN5 (in) "Analog Input Channel 5", 7 AIN6 (in) "Analog Input Channel 6", 8 AIN7 (in) "Analog Input Channel 7", 9 AGND (power) "Analog Ground, GND = 0V", 10 VREF (io) "Voltage Reference Input and Output. See Electrical Characteristics table for ranges.Decouple to ground with a 0.1uF ceramic capacitor and a 2.2uF tantalum capacitor.", 11 DGND (power) "Digital Ground, GND = 0V", 12 A2 (in) "Channel Address. See Channel Selection Table for details.", 13 A1 (in) "Channel Address. See Channel Selection Table for details.", 14 A0 (in) "Channel Address. See Channel Selection Table for details.", 15 DB11 (hiz) "Data Bit 11 (MSB)", 16 DB10 (hiz) "Data Bit 10", 17 DB9 (hiz) "Data Bit 9", 18 DB8 (hiz) "Data Bit 8", 19 DB7 (hiz) "Data Bit 7", 20 DB6 (hiz) "Data Bit 6", 21 DB5 (hiz) "Data Bit 5", 22 DB4 (hiz) "Data Bit 4", 23 DB3 (hiz) "Data Bit 3", 24 DB2 (hiz) "Data Bit 2", 25 DB1 (hiz) "Data Bit 1", 26 DB0 (hiz) "Data Bit 0 (LSB)", 27 ~{WR} (in) "Write Input. Active LOW. Use to start a new conversion and to select an analog channel via address inputs A0, A1 and A2 in combination with C\S\.", 28 ~{BUSY} (out) "B\U\S\Y\ output goes LOW and stays LOW during a conversion. B\U\S\Y\ rises when a conversion is complete.", 29 CLK (in) "External Clock Input. The clock speed determines the conversion rate by the equation: fCLK = 16 X fSAMPLE.", 30 ~{RD} (in) "Read Input. Active LOW. Use to read the data outputs in combination with C\S\. Also use (in conjunction with A0 or A1) to place device in power-down mode.", 31 ~{CS} (in) "Chip Select Input. Active LOW. The combination of C\S\ taken LOW and W\R\ taken LOW initiates a new conversion and places the outputs in tri-state mode.", 32 VSS (power) "Voltage Supply Input. Nominally +5V. Decouple to ground with a 0.1uF ceramic capacitor and a 10uF tantalum capacitor."

## ADS7861E
designator U?
Dual, 500 kHz, 12-Bit, 4 Channel, Simultaneous Sampling ADC, -40 to 125 degC, 24-pin SOP (DBQ24), Green (RoHS & no Sb/Br); Manufacturer: Texas Instruments; PartNumber: ADS7861E; # Input Channels: 4; Analog Voltage AV/DD(Max)(V): 5.25; Analog Voltage AV/DD(Min)(V): 4.75; Architecture: SAR; INL(Max)(+/-LSB): 2; Interface: Serial SPI; Resolution(Bits): 12; Sample Rate (max)(SPS): 500k; SFDR(dB): 71; SINAD(dB): 70; SubFamily: Precision ADC (<=10MSPS); DatasheetVersion: SBAS110D; PackageVersion: 4073301-4/H, 10/2008; PackageReference: DBQ24; PackageDescription: 24-Pin Plastic Small-Outline, Body 8.65 x 3.90 mm, Pitch 0.635 mm; Supplier 1: Digi-Key; Supplier Part Number 1: TLV2544IPWRG4-ND; Supplier 2: Mouser; Supplier Part Number 2: 595-TLV2544IPWRG4; Digital Supply(Max)(V): 5.25; Digital Supply(Min)(V): 4.75; Eco-Plan: Green (RoHS & no Sb/Br); Mounting Technology: Surface Mount; Code_JEDEC: MO-137; ComponentLink1Description: Manufacturer URL; ComponentLink1URL: http://www.ti.com/; ComponentLink2Description: Datasheet; ComponentLink2URL: http://www.ti.com/general/docs/lit/getliterature.tsp?genericPartNumber=ADS7861&fileType=pdf; ComponentLink3Description: Package Specification; ComponentLink3URL: http://www.ti.com/litv/pdf/mpds211a
footprint TI-DBQ24_N (SOP, 24-Leads, Body 8.65x6mm, Pitch 0.635mm, IPC Medium Density)
footprint TI-DBQ24_L (SOP, 24-Leads, Body 8.65x6mm, Pitch 0.635mm, IPC High Density)
footprint TI-DBQ24_M (SOP, 24-Leads, Body 8.65x6mm, Pitch 0.635mm, IPC Low Density)
pins: 1 DGND (power) "Digital Ground. Connect directly to analog ground (pin 12).", 2 CH B1+ (in) "Noninverting Input Channel B1", 3 CH B1- (in) "Inverting Input Channel B1", 4 CH B0+ (in) "Noninverting Input Channel B0", 5 CH B0- (in) "Inverting Input Channel B0", 6 CH A1+ (in) "Noninverting Input Channel A1", 7 CH A1- (in) "Inverting Input Channel A1", 8 CH A0+ (in) "Noninverting Input Channel A0", 9 CH A0- (in) "Inverting Input Channel A0", 10 REFIN (in) "Reference Input", 11 REFOUT (hiz) "2.5V Reference Output", 12 AGND (power) "Analog Ground. Connect directly to digital ground (pin 1).", 13 VA+ (power) "Analog Power Supply, +5VDC. Connect directly to digital power supply (pin 24). Decouple to analog ground with a 0.1uF ceramic capacitor and a 10uF tantalum capacitor.", 14 M1 (in) "Selects between the Serial Outputs. When M1 is LOW, both Serial Output A and Serial Output B are selected for data transfer. When M1 is HIGH, Serial output A is configured for both Channel A data and Channel B data; Serial (See Datasheet)", 15 M0 (in) "Selects between two-channel and four-channel operation. When M0 is LOW, two-channel operation is selected and operates in conjunction with A0. When A0 is HIGH, Channel A1 and Channel B1 are being converted. When A0 is LOW, (See Datasheet)", 16 A0 (in) "A0 operates in conjunction with M0. With M0 LOW and A0 HIGH, Channel A1 and Channel B1 are converted. With M0 LOW and A0 LOW, Channel A0 and Channel B0 are converted.", 17 CONVST (in) "Convert Start. When CONVST switches from LOW to HIGH, the device switches from the sample to hold mode, independent of the status of the external clock.", 18 RD (in) "Synchronization Pulse for the Serial Output.", 19 ~{CS} (in) "Chip Select. When LOW, the Serial Output A and Serial Output B outputs are active; when HIGH, the serial outputs are tri-stated.", 20 CLOCK (in) "An external CMOS-compatible clock can be applied to the CLOCK input to synchronize the conversion process to an external source. The CLOCK pin controls the sampling rate by the equation: CLOCK = 16 * fSAMPLE.", 21 BUSY (hiz) "BUSY goes HIGH during a conversion and returns LOW after the third LSB has been transmitted on either the Serial A or Serial B output pin.", 22 SERIAL DATA B (hiz) "The Serial Output data word is comprised of channel information and 12 bits of data. In operation, data is valid on the falling edge of DCLOCK for 16 edges after the rising edge of RD.", 23 SERIAL DATA A (hiz) "The Serial Output data word is comprised of channel information and 12 bits of data. In operation, data is valid on the falling edge of DCLOCK for 16 edges after the rising edge of RD. When M1 is HIGH, both Channel A data (See Datasheet)", 24 VD+ (power) "Digital Power Supply, +5VDC. Connect directly to pin 13. Must be =< +VA."

## ADS7861E/2K5
designator U?
Dual, 500 kHz, 12-Bit, 4 Channel, Simultaneous Sampling ADC, -40 to 125 degC, 24-pin SOP (DBQ24), Green (RoHS & no Sb/Br); Manufacturer: Texas Instruments; PartNumber: ADS7861E/2K5; # Input Channels: 4; Analog Voltage AV/DD(Max)(V): 5.25; Analog Voltage AV/DD(Min)(V): 4.75; Architecture: SAR; INL(Max)(+/-LSB): 2; Interface: Serial SPI; Resolution(Bits): 12; Sample Rate (max)(SPS): 500k; SFDR(dB): 71; SINAD(dB): 70; SubFamily: Precision ADC (<=10MSPS); DatasheetVersion: SBAS110D; PackageVersion: 4073301-4/H, 10/2008; PackageReference: DBQ24; PackageDescription: 24-Pin Plastic Small-Outline, Body 8.65 x 3.90 mm, Pitch 0.635 mm; Supplier 1: Digi-Key; Supplier Part Number 1: ADS7852YTR-ND; Supplier 2: Digi-Key; Supplier Part Number 2: ADS7852YCT-ND; Supplier 3: Digi-Key; Supplier Part Number 3: ADS7852YDKR-ND; Supplier 4: Farnell; Supplier Part Number 4: 4177241; Supplier 5: Newark; Supplier Part Number 5: 35C1562; Supplier 6: Mouser; Supplier Part Number 6: 595-ADS7852Y/250; Digital Supply(Max)(V): 5.25; Digital Supply(Min)(V): 4.75; Eco-Plan: Green (RoHS & no Sb/Br); Mounting Technology: Surface Mount; Code_JEDEC: MO-137; ComponentLink1Description: Manufacturer URL; ComponentLink1URL: http://www.ti.com/; ComponentLink2Description: Datasheet; ComponentLink2URL: http://www.ti.com/general/docs/lit/getliterature.tsp?genericPartNumber=ADS7861&fileType=pdf; ComponentLink3Description: Package Specification; ComponentLink3URL: http://www.ti.com/litv/pdf/mpds211a
footprint TI-DBQ24_N (SOP, 24-Leads, Body 8.65x6mm, Pitch 0.635mm, IPC Medium Density)
footprint TI-DBQ24_L (SOP, 24-Leads, Body 8.65x6mm, Pitch 0.635mm, IPC High Density)
footprint TI-DBQ24_M (SOP, 24-Leads, Body 8.65x6mm, Pitch 0.635mm, IPC Low Density)
pins: 1 DGND (power) "Digital Ground. Connect directly to analog ground (pin 12).", 2 CH B1+ (in) "Noninverting Input Channel B1", 3 CH B1- (in) "Inverting Input Channel B1", 4 CH B0+ (in) "Noninverting Input Channel B0", 5 CH B0- (in) "Inverting Input Channel B0", 6 CH A1+ (in) "Noninverting Input Channel A1", 7 CH A1- (in) "Inverting Input Channel A1", 8 CH A0+ (in) "Noninverting Input Channel A0", 9 CH A0- (in) "Inverting Input Channel A0", 10 REFIN (in) "Reference Input", 11 REFOUT (hiz) "2.5V Reference Output", 12 AGND (power) "Analog Ground. Connect directly to digital ground (pin 1).", 13 VA+ (power) "Analog Power Supply, +5VDC. Connect directly to digital power supply (pin 24). Decouple to analog ground with a 0.1uF ceramic capacitor and a 10uF tantalum capacitor.", 14 M1 (in) "Selects between the Serial Outputs. When M1 is LOW, both Serial Output A and Serial Output B are selected for data transfer. When M1 is HIGH, Serial output A is configured for both Channel A data and Channel B data; Serial (See Datasheet)", 15 M0 (in) "Selects between two-channel and four-channel operation. When M0 is LOW, two-channel operation is selected and operates in conjunction with A0. When A0 is HIGH, Channel A1 and Channel B1 are being converted. When A0 is LOW, (See Datasheet)", 16 A0 (in) "A0 operates in conjunction with M0. With M0 LOW and A0 HIGH, Channel A1 and Channel B1 are converted. With M0 LOW and A0 LOW, Channel A0 and Channel B0 are converted.", 17 CONVST (in) "Convert Start. When CONVST switches from LOW to HIGH, the device switches from the sample to hold mode, independent of the status of the external clock.", 18 RD (in) "Synchronization Pulse for the Serial Output.", 19 ~{CS} (in) "Chip Select. When LOW, the Serial Output A and Serial Output B outputs are active; when HIGH, the serial outputs are tri-stated.", 20 CLOCK (in) "An external CMOS-compatible clock can be applied to the CLOCK input to synchronize the conversion process to an external source. The CLOCK pin controls the sampling rate by the equation: CLOCK = 16 * fSAMPLE.", 21 BUSY (hiz) "BUSY goes HIGH during a conversion and returns LOW after the third LSB has been transmitted on either the Serial A or Serial B output pin.", 22 SERIAL DATA B (hiz) "The Serial Output data word is comprised of channel information and 12 bits of data. In operation, data is valid on the falling edge of DCLOCK for 16 edges after the rising edge of RD.", 23 SERIAL DATA A (hiz) "The Serial Output data word is comprised of channel information and 12 bits of data. In operation, data is valid on the falling edge of DCLOCK for 16 edges after the rising edge of RD. When M1 is HIGH, both Channel A data (See Datasheet)", 24 VD+ (power) "Digital Power Supply, +5VDC. Connect directly to pin 13. Must be =< +VA."

## ADS7861E/2K5G4
designator U?
Dual, 500 kHz, 12-Bit, 4 Channel, Simultaneous Sampling ADC, -40 to 125 degC, 24-pin SOP (DBQ24), Green (RoHS & no Sb/Br); Manufacturer: Texas Instruments; PartNumber: ADS7861E/2K5G4; # Input Channels: 4; Analog Voltage AV/DD(Max)(V): 5.25; Analog Voltage AV/DD(Min)(V): 4.75; Architecture: SAR; INL(Max)(+/-LSB): 2; Interface: Serial SPI; Resolution(Bits): 12; Sample Rate (max)(SPS): 500k; SFDR(dB): 71; SINAD(dB): 70; SubFamily: Precision ADC (<=10MSPS); DatasheetVersion: SBAS110D; PackageVersion: 4073301-4/H, 10/2008; PackageReference: DBQ24; PackageDescription: 24-Pin Plastic Small-Outline, Body 8.65 x 3.90 mm, Pitch 0.635 mm; Supplier 1: Digi-Key; Supplier Part Number 1: ADS7852Y/250G4-ND; Supplier 2: Newark; Supplier Part Number 2: 73K7089; Supplier 3: Mouser; Supplier Part Number 3: 595-ADS7852Y/250G4; Digital Supply(Max)(V): 5.25; Digital Supply(Min)(V): 4.75; Eco-Plan: Green (RoHS & no Sb/Br); Mounting Technology: Surface Mount; Code_JEDEC: MO-137; ComponentLink1Description: Manufacturer URL; ComponentLink1URL: http://www.ti.com/; ComponentLink2Description: Datasheet; ComponentLink2URL: http://www.ti.com/general/docs/lit/getliterature.tsp?genericPartNumber=ADS7861&fileType=pdf; ComponentLink3Description: Package Specification; ComponentLink3URL: http://www.ti.com/litv/pdf/mpds211a
footprint TI-DBQ24_N (SOP, 24-Leads, Body 8.65x6mm, Pitch 0.635mm, IPC Medium Density)
footprint TI-DBQ24_L (SOP, 24-Leads, Body 8.65x6mm, Pitch 0.635mm, IPC High Density)
footprint TI-DBQ24_M (SOP, 24-Leads, Body 8.65x6mm, Pitch 0.635mm, IPC Low Density)
pins: 1 DGND (power) "Digital Ground. Connect directly to analog ground (pin 12).", 2 CH B1+ (in) "Noninverting Input Channel B1", 3 CH B1- (in) "Inverting Input Channel B1", 4 CH B0+ (in) "Noninverting Input Channel B0", 5 CH B0- (in) "Inverting Input Channel B0", 6 CH A1+ (in) "Noninverting Input Channel A1", 7 CH A1- (in) "Inverting Input Channel A1", 8 CH A0+ (in) "Noninverting Input Channel A0", 9 CH A0- (in) "Inverting Input Channel A0", 10 REFIN (in) "Reference Input", 11 REFOUT (hiz) "2.5V Reference Output", 12 AGND (power) "Analog Ground. Connect directly to digital ground (pin 1).", 13 VA+ (power) "Analog Power Supply, +5VDC. Connect directly to digital power supply (pin 24). Decouple to analog ground with a 0.1uF ceramic capacitor and a 10uF tantalum capacitor.", 14 M1 (in) "Selects between the Serial Outputs. When M1 is LOW, both Serial Output A and Serial Output B are selected for data transfer. When M1 is HIGH, Serial output A is configured for both Channel A data and Channel B data; Serial (See Datasheet)", 15 M0 (in) "Selects between two-channel and four-channel operation. When M0 is LOW, two-channel operation is selected and operates in conjunction with A0. When A0 is HIGH, Channel A1 and Channel B1 are being converted. When A0 is LOW, (See Datasheet)", 16 A0 (in) "A0 operates in conjunction with M0. With M0 LOW and A0 HIGH, Channel A1 and Channel B1 are converted. With M0 LOW and A0 LOW, Channel A0 and Channel B0 are converted.", 17 CONVST (in) "Convert Start. When CONVST switches from LOW to HIGH, the device switches from the sample to hold mode, independent of the status of the external clock.", 18 RD (in) "Synchronization Pulse for the Serial Output.", 19 ~{CS} (in) "Chip Select. When LOW, the Serial Output A and Serial Output B outputs are active; when HIGH, the serial outputs are tri-stated.", 20 CLOCK (in) "An external CMOS-compatible clock can be applied to the CLOCK input to synchronize the conversion process to an external source. The CLOCK pin controls the sampling rate by the equation: CLOCK = 16 * fSAMPLE.", 21 BUSY (hiz) "BUSY goes HIGH during a conversion and returns LOW after the third LSB has been transmitted on either the Serial A or Serial B output pin.", 22 SERIAL DATA B (hiz) "The Serial Output data word is comprised of channel information and 12 bits of data. In operation, data is valid on the falling edge of DCLOCK for 16 edges after the rising edge of RD.", 23 SERIAL DATA A (hiz) "The Serial Output data word is comprised of channel information and 12 bits of data. In operation, data is valid on the falling edge of DCLOCK for 16 edges after the rising edge of RD. When M1 is HIGH, both Channel A data (See Datasheet)", 24 VD+ (power) "Digital Power Supply, +5VDC. Connect directly to pin 13. Must be =< +VA."